# Altium footprint library AR211C333K4RTR1.PcbLib: 1 footprints
Each footprint in its own frame and in the unit in brackets; x right, y up, seen from the top. Pads: shape width x height; smd on the part's side, far side on the other; paste and mask are expansions set on the pad; w line width, h text height; cw(c..) or ccw(c..) is an arc to the next point about the centre after c.
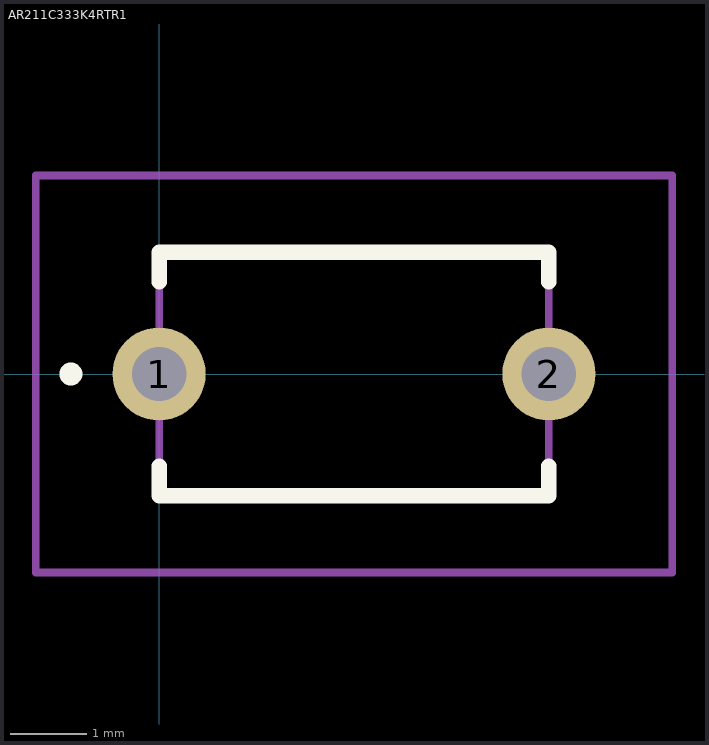
[diagram p0: the footprint, top view; thin cyan lines are the x and y axes]

## AR211C333K4RTR1 [mil]
pads (2):
  round 47.8 hole 27.87: 1(0,0) 2(200,0)
Top Overlay:
  lines w7.87: 0,-47.24 0,-62.52 200,-62.52 200,-47.24 ; 0,47.24 0,62.52 200,62.52 200,47.24 ; -47.24,0 -47.24,0 ; -47.24,0 ccw(c-45.28,0) -43.31,0 ; -47.24,0 cw(c-45.28,0) -43.31,0 ; -47.24,0 -43.31,0 ; -43.31,0 -43.31,0
Mechanical 15:
  lines w3.94: 0,-62.52 200,-62.52 200,62.52 0,62.52 0,-62.52
Mechanical 20:
  lines w3.94: -63.27,-101.89 263.27,-101.89 263.27,101.89 -63.27,101.89 -63.27,-101.89